# EAGLE library part 61301411121 (library Header_R_ESP32)
CONN HEADER VERT 14POS 2.54MM Manufacturer's datasheet <https://katalog.we-online.de/em/datasheet/6130xx11121.pdf>
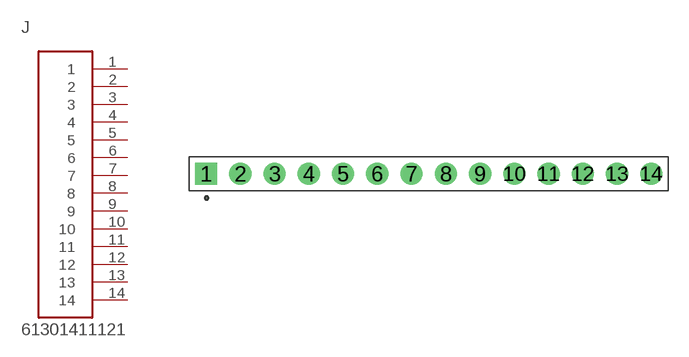
[diagram p2: symbol with the pads of 61301411121; footprint 61301411121]

Designator prefix J

## 61301411121 (CREATED_BY: PCBLayout.com; DIGIKEY_PART_NUMBER: 732-5325-ND; MANUFACTURER: Wurth Electronics Inc.; MPN: 61301411121)  [61301411121]
1  1  pas
2  2  pas
3  3  pas
4  4  pas
5  5  pas
6  6  pas
7  7  pas
8  8  pas
9  9  pas
10  10  pas
11  11  pas
12  12  pas
13  13  pas
14  14  pas

## Footprint 61301411121 (pad centres in mm)
drill 1.1 square: 1 -16.51,0
drill 1.1: 2 -13.97,0; 3 -11.43,0; 4 -8.89,0; 5 -6.35,0; 6 -3.81,0; 7 -1.27,0; 8 1.27,0; 9 3.81,0; 10 6.35,0; 11 8.89,0; 12 11.43,0; 13 13.97,0; 14 16.51,0